# Altium footprint library BOURNS_SRN5040.PcbLib: 1 footprints
Each footprint in its own frame and in the unit in brackets; x right, y up, seen from the top. Pads: shape width x height; smd on the part's side, far side on the other; paste and mask are expansions set on the pad; w line width, h text height; cw(c..) or ccw(c..) is an arc to the next point about the centre after c.
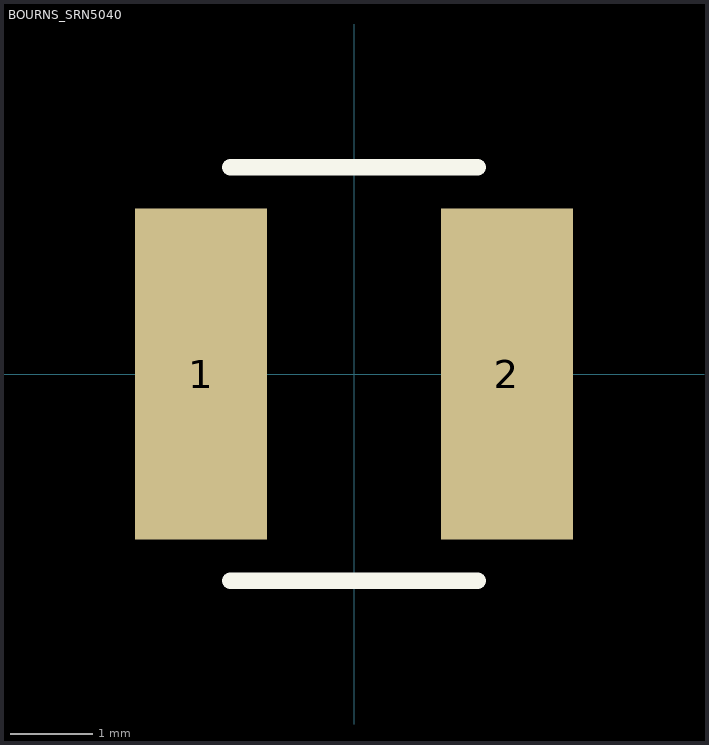
[diagram p0: the footprint, top view; thin cyan lines are the x and y axes]

## BOURNS_SRN5040 [mm] "Bourns SRN5040 series inductors"
pads (2):
  rect 1.6x4 smd: 1(-1.85,0) 2(1.85,0)
Top Overlay:
  lines w0.2: -1.5,-2.5 1.5,-2.5 ; -1.5,2.5 1.5,2.5
3D body "BOURNS_SRN5040.stp": height 3.5, standoff 0.06, extent -2.501,-2.52 2.501,2.5